# Altium schematic symbol library IND,4.7uH,4A,Wirewound,SMD.Schlib: 1 symbol
Pins are listed as number, name and electrical type; pins without a type are passive.

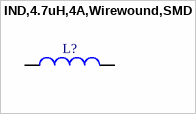
[diagram p0: symbol IND,4.7uH,4A,Wirewound,SMD]

## IND,4.7uH,4A,Wirewound,SMD
designator L?
pins: 1, 2